# Altium integrated library LM74800QDRRRQ1.IntLib: 1 symbol
Pins are listed as number, name and electrical type; pins without a type are passive.

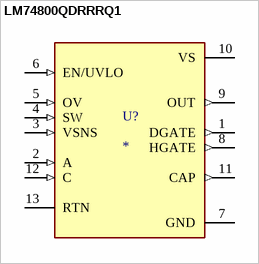
[diagram p0: symbol LM74800QDRRRQ1]

## LM74800QDRRRQ1
designator U?
3-V to 65-V, automotive ideal diode controller driving back to back NFETs; MF: Texas Instruments; MP: LM74800QDRRRQ1; SnapEDA_Link: https://www.snapeda.com/parts/LM74800QDRRRQ1/Texas+Instruments/view-part/?ref=snap; Package: WSON-12 Texas Instruments; Value: *; Check_prices: https://www.snapeda.com/parts/LM74800QDRRRQ1/Texas+Instruments/view-part/?ref=eda
footprint IC_LM74800QDRRRQ1
pins: 1 DGATE (out), 2 A (in), 3 VSNS (in), 4 SW (in), 5 OV (in), 6 EN/UVLO (in), 7 GND (power), 8 HGATE (out), 9 OUT (out), 10 VS (power), 11 CAP (out), 12 C (in), 13 RTN